# EAGLE library part MOLEX_SLIMSTACK_64 (library RHD2000)
Molex 64-pin SlimStack connector (DigiKey WM24076-ND)
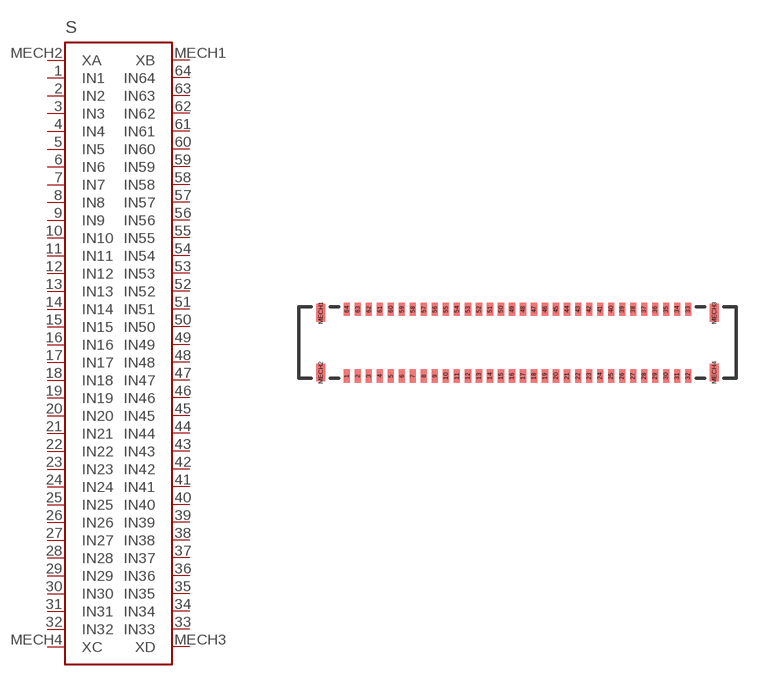
[diagram p6: symbol with the pads of MOLEX_SLIMSTACK_64; footprint MOLEX_SLIMSTACK_64]

Designator prefix S

## MOLEX_SLIMSTACK_64  [MOLEX_SLIMSTACK_64]
1  IN1  in
2  IN2  in
3  IN3  in
4  IN4  in
5  IN5  in
6  IN6  in
7  IN7  in
8  IN8  in
9  IN9  in
10  IN10  in
11  IN11  in
12  IN12  in
13  IN13  in
14  IN14  in
15  IN15  in
16  IN16  in
17  IN17  in
18  IN18  in
19  IN19  in
20  IN20  in
21  IN21  in
22  IN22  in
23  IN23  in
24  IN24  in
25  IN25  in
26  IN26  in
27  IN27  in
28  IN28  in
29  IN29  in
30  IN30  in
31  IN31  in
32  IN32  in
33  IN33  in
34  IN34  in
35  IN35  in
36  IN36  in
37  IN37  in
38  IN38  in
39  IN39  in
40  IN40  in
41  IN41  in
42  IN42  in
43  IN43  in
44  IN44  in
45  IN45  in
46  IN46  in
47  IN47  in
48  IN48  in
49  IN49  in
50  IN50  in
51  IN51  in
52  IN52  in
53  IN53  in
54  IN54  in
55  IN55  in
56  IN56  in
57  IN57  in
58  IN58  in
59  IN59  in
60  IN60  in
61  IN61  in
62  IN62  in
63  IN63  in
64  IN64  in
MECH1  XB  in
MECH2  XA  in
MECH3  XD  in
MECH4  XC  in

## Footprint MOLEX_SLIMSTACK_64 (pad centres in mm)
Molex SlimStack 64-pin connector (DigiKey part WM24076-ND)
smd 0.22 x 0.475: 1 -6.2,-1.212; 2 -5.8,-1.212; 3 -5.4,-1.212; 4 -5,-1.212; 5 -4.6,-1.212; 6 -4.2,-1.212; 7 -3.8,-1.212; 8 -3.4,-1.212; 9 -3,-1.212; 10 -2.6,-1.212; 11 -2.2,-1.212; 12 -1.8,-1.212; 13 -1.4,-1.212; 14 -1,-1.212; 15 -0.6,-1.212; 16 -0.2,-1.212; 17 0.2,-1.212; 18 0.6,-1.212; 19 1,-1.212; 20 1.4,-1.212; 21 1.8,-1.212; 22 2.2,-1.212; 23 2.6,-1.212; 24 3,-1.212; 25 3.4,-1.212; 26 3.8,-1.212; 27 4.2,-1.212; 28 4.6,-1.212; 29 5,-1.212; 30 5.4,-1.212; 31 5.8,-1.212; 32 6.2,-1.212; 33 6.2,1.212; 34 5.8,1.212; 35 5.4,1.212; 36 5,1.212; 37 4.6,1.212; 38 4.2,1.212; 39 3.8,1.212; 40 3.4,1.212; 41 3,1.212; 42 2.6,1.212; 43 2.2,1.212; 44 1.8,1.212; 45 1.4,1.212; 46 1,1.212; 47 0.6,1.212; 48 0.2,1.212; 49 -0.2,1.212; 50 -0.6,1.212; 51 -1,1.212; 52 -1.4,1.212; 53 -1.8,1.212; 54 -2.2,1.212; 55 -2.6,1.212; 56 -3,1.212; 57 -3.4,1.212; 58 -3.8,1.212; 59 -4.2,1.212; 60 -4.6,1.212; 61 -5,1.212; 62 -5.4,1.212; 63 -5.8,1.212; 64 -6.2,1.212
smd 0.32 x 0.65: MECH1 -7.15,1.085; MECH2 -7.15,-1.085; MECH3 7.15,1.085; MECH4 7.15,-1.085